# EAGLE library part ESP32DEVKITV1 (library ESP32-DEVKIT)
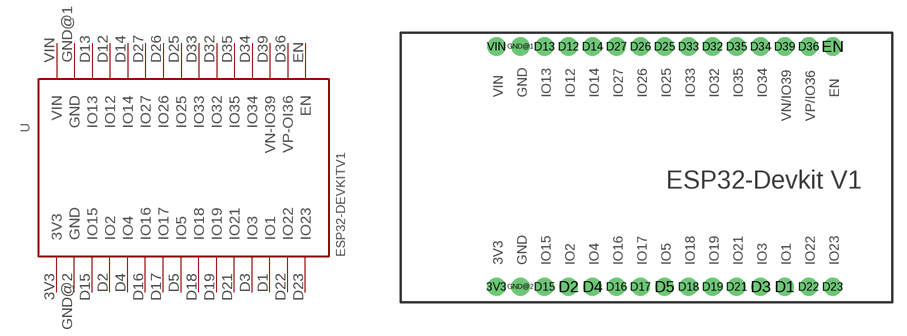
[diagram p0: symbol with the pads of ESP32-DEVKITV1; footprint ESP32-DEVKITV1]

Designator prefix -

## ESP32DEVKITV1  [ESP32-DEVKITV1]
3V3  3V3
D1  IO1
D2  IO2
D3  IO3
D4  IO4
D5  IO5
D12  IO12
D13  IO13
D14  IO14
D15  IO15
D16  IO16
D17  IO17
D18  IO18
D19  IO19
D21  IO21
D22  IO22
D23  IO23
D25  IO25
D26  IO26
D27  IO27
D32  IO32
D33  IO33
D34  IO34
D35  IO35
D36  VP-OI36
D39  VN-IO39
EN  EN
GND@1  GND
GND@2  GND
VIN  VIN

## Footprint ESP32-DEVKITV1 (pad centres in mm)
drill 1 pad 1.93: 3V3 -16.52,-12.27; D1 13.96,-12.27; D2 -8.9,-12.27; D3 11.42,-12.27; D4 -6.36,-12.27; D5 1.26,-12.27; D12 -8.9,13.135; D13 -11.44,13.135; D14 -6.36,13.135; D15 -11.44,-12.27; D16 -3.82,-12.27; D17 -1.28,-12.27; D18 3.8,-12.27; D19 6.34,-12.27; D21 8.88,-12.27; D22 16.5,-12.27; D23 19.04,-12.27; D25 1.26,13.135; D26 -1.28,13.135; D27 -3.82,13.135; D32 6.34,13.135; D33 3.8,13.135; D34 11.42,13.135; D35 8.88,13.135; D36 16.5,13.135; D39 13.96,13.135; EN 19.04,13.135; GND@1 -13.98,13.135; GND@2 -13.98,-12.27; VIN -16.52,13.135